# EAGLE library part MT8870DS1 (library MT8870DS1)
Telecom Interface ICs Pb Free DTMF RECEIVER SOIC Source: Datasheet <http://www.microsemi.com/document-portal/doc_download/127041-mt8870d-datasheet-oct2006>
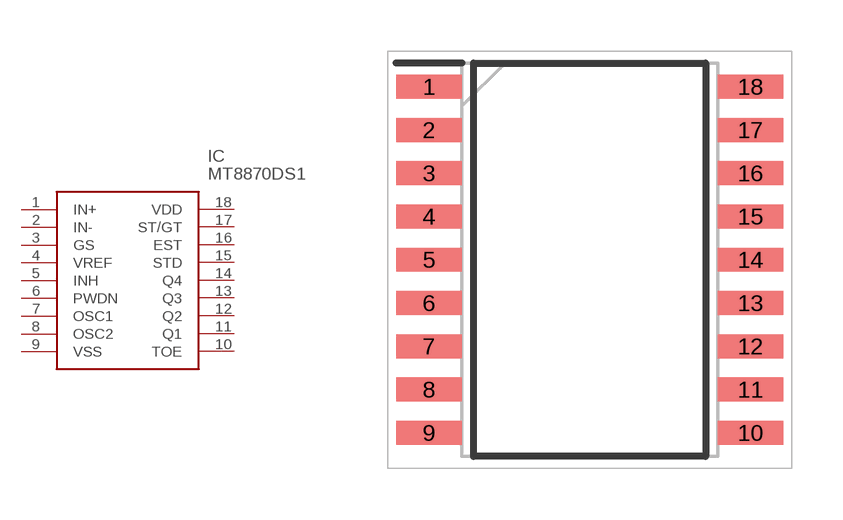
[diagram p0: symbol with the pads of SOIC127P1032X265-18N; footprint SOIC127P1032X265-18N]

Designator prefix IC

## MT8870DS1 (Description: Telecom Interface ICs Pb Free DTMF RECEIVER SOIC; Height: 2.65mm; Manufacturer_Name: Microsemi Corporation; Manufacturer_Part_Number: MT8870DS1; Mouser_Part_Number: 494-MT8870DS1; Mouser_Price-Stock: https://www.mouser.co.uk/ProductDetail/Microchip-Microsemi/MT8870DS1?qs=6jAvgNDGUA8thylXPIiMbQ%3D%3D)  [SOIC127P1032X265-18N]
1  IN+
2  IN-
3  GS
4  VREF
5  INH
6  PWDN
7  OSC1
8  OSC2
9  VSS
10  TOE
11  Q1
12  Q2
13  Q3
14  Q4
15  STD
16  EST
17  ST/GT
18  VDD

## Footprint SOIC127P1032X265-18N (pad centres in mm)
18 LEAD SOIC 0.300"
smd 1.925 x 0.7: 1 -4.712,5.08; 2 -4.712,3.81; 3 -4.712,2.54; 4 -4.712,1.27; 5 -4.712,0; 6 -4.712,-1.27; 7 -4.712,-2.54; 8 -4.712,-3.81; 9 -4.712,-5.08; 10 4.712,-5.08; 11 4.712,-3.81; 12 4.712,-2.54; 13 4.712,-1.27; 14 4.712,0; 15 4.712,1.27; 16 4.712,2.54; 17 4.712,3.81; 18 4.712,5.08